# Altium schematic symbol library BLM15KD200SN1D.SchLib: 1 symbol
Pins are listed as number, name and electrical type; pins without a type are passive.

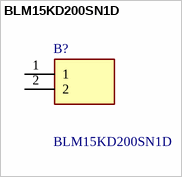
[diagram p0: symbol BLM15KD200SN1D]

## BLM15KD200SN1D
designator B?
BLM15_N1D Series EMI Suppression Filter 20+/-25% at 100MHz 3.8A @85; Manufacturer_Name: Murata Electronics; Geometry.Height: 0.55mm; Mouser Part Number: 81-BLM15KD200SN1D; Mouser Price/Stock: https://www.mouser.co.uk/ProductDetail/Murata-Electronics/BLM15KD200SN1D?qs=glnLrWX4TPrUDHGMZIcv%2FA%3D%3D; Manufacturer_Part_Number: BLM15KD200SN1D; Datasheet Link: http://www.murata.com/~/media/webrenewal/support/library/catalog/products/emc/emifil/c31e.ashx?la=en-gb
footprint NFZ15SG152SN10B
pins: 1, 2